# Altium footprint library crystal_5032.PcbLib: 1 footprints
Each footprint in its own frame and in the unit in brackets; x right, y up, seen from the top. Pads: shape width x height; smd on the part's side, far side on the other; paste and mask are expansions set on the pad; w line width, h text height; cw(c..) or ccw(c..) is an arc to the next point about the centre after c.
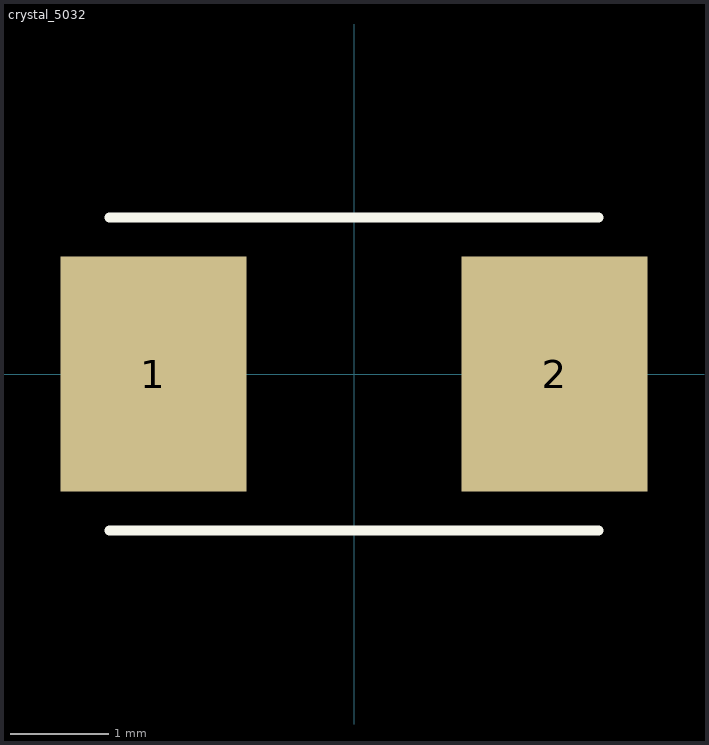
[diagram p0: the footprint, top view; thin cyan lines are the x and y axes]

## crystal_5032 [mm]
height 1.3
pads (2):
  rect 1.9x2.4 smd: 1(-2.05,0) 2(2.05,0)
Top Overlay:
  lines w0.1: -2.5,-1.6 2.5,-1.6 ; -2.5,1.6 2.5,1.6
3D body "User Library-ABM3-1.STEP": height 1.3, standoff 0, extent -2.5,-1.6 2.5,1.6